# EAGLE library part ESP32-DEVKITV4_ESP32DEVKITV4 (library mainboard-v4aW-jlcpcb)
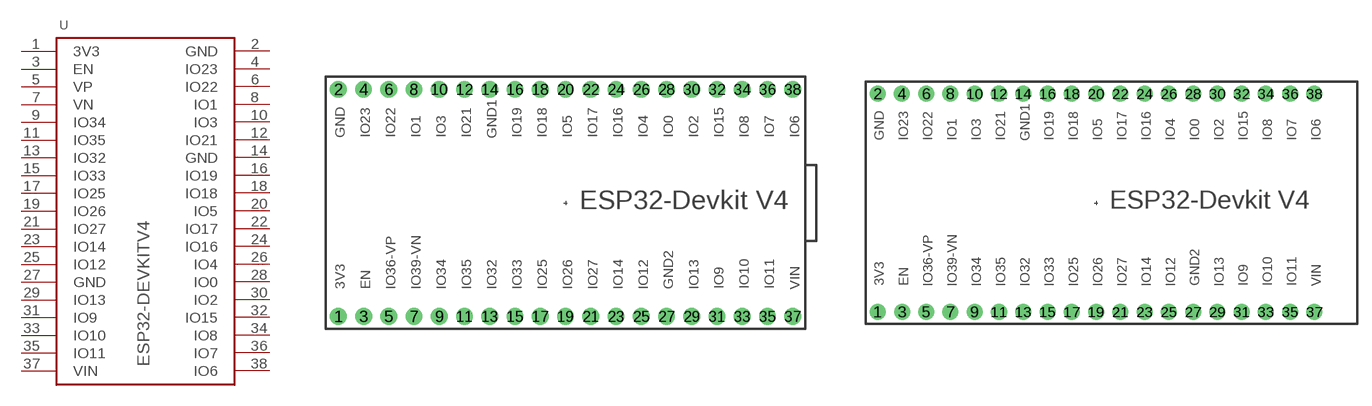
[diagram p3: symbol with the pads of ESP32-DEVKITV4_ESP32-DEVKITV4; footprints ESP32-DEVKITV4_ESP32-DEVKITV4, ESP32-DEVKITV4_ESP32-DEVKITV4-CC]

Designator prefix -

## ESP32-DEVKITV4_ESP32DEVKITV4  [ESP32-DEVKITV4_ESP32-DEVKITV4]
1  3V3  pwr
2  GND  pwr
3  EN
4  IO23
5  VP
6  IO22
7  VN
8  IO1
9  IO34
10  IO3
11  IO35
12  IO21
13  IO32
14  GND  pwr
15  IO33
16  IO19
17  IO25
18  IO18
19  IO26
20  IO5
21  IO27
22  IO17
23  IO14
24  IO16
25  IO12
26  IO4
27  GND  pwr
28  IO0
29  IO13
30  IO2
31  IO9
32  IO15
33  IO10
34  IO8
35  IO11
36  IO7
37  VIN  pwr
38  IO6

## ESP32-DEVKITV4_ESP32DEVKITV4CC  [ESP32-DEVKITV4_ESP32-DEVKITV4-CC]
Pads as for ESP32-DEVKITV4_ESP32-DEVKITV4

## ESP32-DEVKITV4_ESP32DEVKITV4W  [ESP32-DEVKITV4_ESP32-DEVKITV4-W]
Pads as for ESP32-DEVKITV4_ESP32-DEVKITV4

## ESP32-DEVKITV4_ESP32DEVKITV4NS  [ESP32-DEVKIT_ESP32-DEVKITV4-W-NS]
Pads as for ESP32-DEVKITV4_ESP32-DEVKITV4

## ESP32-DEVKITV4_ESP32DEVKITV4NOTXT  [ESP32_DEVKIT_V4]
Pads as for ESP32-DEVKITV4_ESP32-DEVKITV4

## Footprint ESP32-DEVKITV4_ESP32-DEVKITV4 (pad centres in mm)
drill 1 pad 1.676: 1 -22.87,-11.43; 2 -22.87,11.43; 3 -20.31,-11.43; 4 -20.33,11.43; 5 -17.79,-11.43; 6 -17.79,11.43; 7 -15.25,-11.43; 8 -15.25,11.43; 9 -12.71,-11.43; 10 -12.71,11.43; 11 -10.17,-11.43; 12 -10.17,11.43; 13 -7.63,-11.43; 14 -7.63,11.43; 15 -5.09,-11.43; 16 -5.09,11.43; 17 -2.55,-11.43; 18 -2.55,11.43; 19 -0.01,-11.43; 20 -0.01,11.43; 21 2.53,-11.43; 22 2.53,11.43; 23 5.07,-11.43; 24 5.07,11.43; 25 7.61,-11.43; 26 7.61,11.43; 27 10.15,-11.43; 28 10.15,11.43; 29 12.69,-11.43; 30 12.69,11.43; 31 15.23,-11.43; 32 15.23,11.43; 33 17.77,-11.43; 34 17.77,11.43; 35 20.31,-11.43; 36 20.31,11.43; 37 22.85,-11.43; 38 22.85,11.43

## Footprint ESP32-DEVKITV4_ESP32-DEVKITV4-CC (pad centres in mm)
drill 1 pad 1.676: 1 -22.87,-11.43; 2 -22.87,11.43; 3 -20.31,-11.43; 4 -20.33,11.43; 5 -17.79,-11.43; 6 -17.79,11.43; 7 -15.25,-11.43; 8 -15.25,11.43; 9 -12.71,-11.43; 10 -12.71,11.43; 11 -10.17,-11.43; 12 -10.17,11.43; 13 -7.63,-11.43; 14 -7.63,11.43; 15 -5.09,-11.43; 16 -5.09,11.43; 17 -2.55,-11.43; 18 -2.55,11.43; 19 -0.01,-11.43; 20 -0.01,11.43; 21 2.53,-11.43; 22 2.53,11.43; 23 5.07,-11.43; 24 5.07,11.43; 25 7.61,-11.43; 26 7.61,11.43; 27 10.15,-11.43; 28 10.15,11.43; 29 12.69,-11.43; 30 12.69,11.43; 31 15.23,-11.43; 32 15.23,11.43; 33 17.77,-11.43; 34 17.77,11.43; 35 20.31,-11.43; 36 20.31,11.43; 37 22.85,-11.43; 38 22.85,11.43

## Footprint ESP32-DEVKITV4_ESP32-DEVKITV4-W (pad centres in mm)
drill 0.8 pad 1.64: 1 -22.869,-12.7; 2 -22.869,12.7; 3 -20.309,-12.7; 4 -20.329,12.7; 5 -17.789,-12.7; 6 -17.789,12.7; 7 -15.249,-12.7; 8 -15.249,12.7; 9 -12.709,-12.7; 10 -12.709,12.7; 11 -10.169,-12.7; 12 -10.169,12.7; 13 -7.629,-12.7; 14 -7.629,12.7; 15 -5.089,-12.7; 16 -5.089,12.7; 17 -2.549,-12.7; 18 -2.549,12.7; 19 -0.009,-12.7; 20 -0.009,12.7; 21 2.531,-12.7; 22 2.531,12.7; 23 5.071,-12.7; 24 5.071,12.7; 25 7.611,-12.7; 26 7.611,12.7; 27 10.151,-12.7; 28 10.151,12.7; 29 12.691,-12.7; 30 12.691,12.7; 31 15.231,-12.7; 32 15.231,12.7; 33 17.771,-12.7; 34 17.771,12.7; 35 20.311,-12.7; 36 20.311,12.7; 37 22.851,-12.7; 38 22.851,12.7

## Footprint ESP32-DEVKIT_ESP32-DEVKITV4-W-NS (pad centres in mm)
drill 0.8 pad 1.64: 1 -22.86,-12.7; 2 -22.86,12.7; 3 -20.32,-12.7; 4 -20.32,12.7; 5 -17.78,-12.7; 6 -17.78,12.7; 7 -15.24,-12.7; 8 -15.24,12.7; 9 -12.7,-12.7; 10 -12.7,12.7; 11 -10.16,-12.7; 12 -10.16,12.7; 13 -7.62,-12.7; 14 -7.62,12.7; 15 -5.08,-12.7; 16 -5.08,12.7; 17 -2.54,-12.7; 18 -2.54,12.7; 19 0,-12.7; 20 0,12.7; 21 2.54,-12.7; 22 2.54,12.7; 23 5.08,-12.7; 24 5.08,12.7; 25 7.62,-12.7; 26 7.62,12.7; 27 10.16,-12.7; 28 10.16,12.7; 29 12.7,-12.7; 30 12.7,12.7; 31 15.24,-12.7; 32 15.24,12.7; 33 17.78,-12.7; 34 17.78,12.7; 35 20.32,-12.7; 36 20.32,12.7; 37 22.86,-12.7; 38 22.86,12.7

## Footprint ESP32_DEVKIT_V4 (pad centres in mm)
drill 0.8 pad 1.64: 1 -22.86,-12.7; 2 -22.86,12.7; 3 -20.32,-12.7; 4 -20.32,12.7; 5 -17.78,-12.7; 6 -17.78,12.7; 7 -15.24,-12.7; 8 -15.24,12.7; 9 -12.7,-12.7; 10 -12.7,12.7; 11 -10.16,-12.7; 12 -10.16,12.7; 13 -7.62,-12.7; 14 -7.62,12.7; 15 -5.08,-12.7; 16 -5.08,12.7; 17 -2.54,-12.7; 18 -2.54,12.7; 19 0,-12.7; 20 0,12.7; 21 2.54,-12.7; 22 2.54,12.7; 23 5.08,-12.7; 24 5.08,12.7; 25 7.62,-12.7; 26 7.62,12.7; 27 10.16,-12.7; 28 10.16,12.7; 29 12.7,-12.7; 30 12.7,12.7; 31 15.24,-12.7; 32 15.24,12.7; 33 17.78,-12.7; 34 17.78,12.7; 35 20.32,-12.7; 36 20.32,12.7; 37 22.86,-12.7; 38 22.86,12.7